# Altium schematic symbol library Microcontrollers.SchLib: 33 symbols (part 2 of 2)
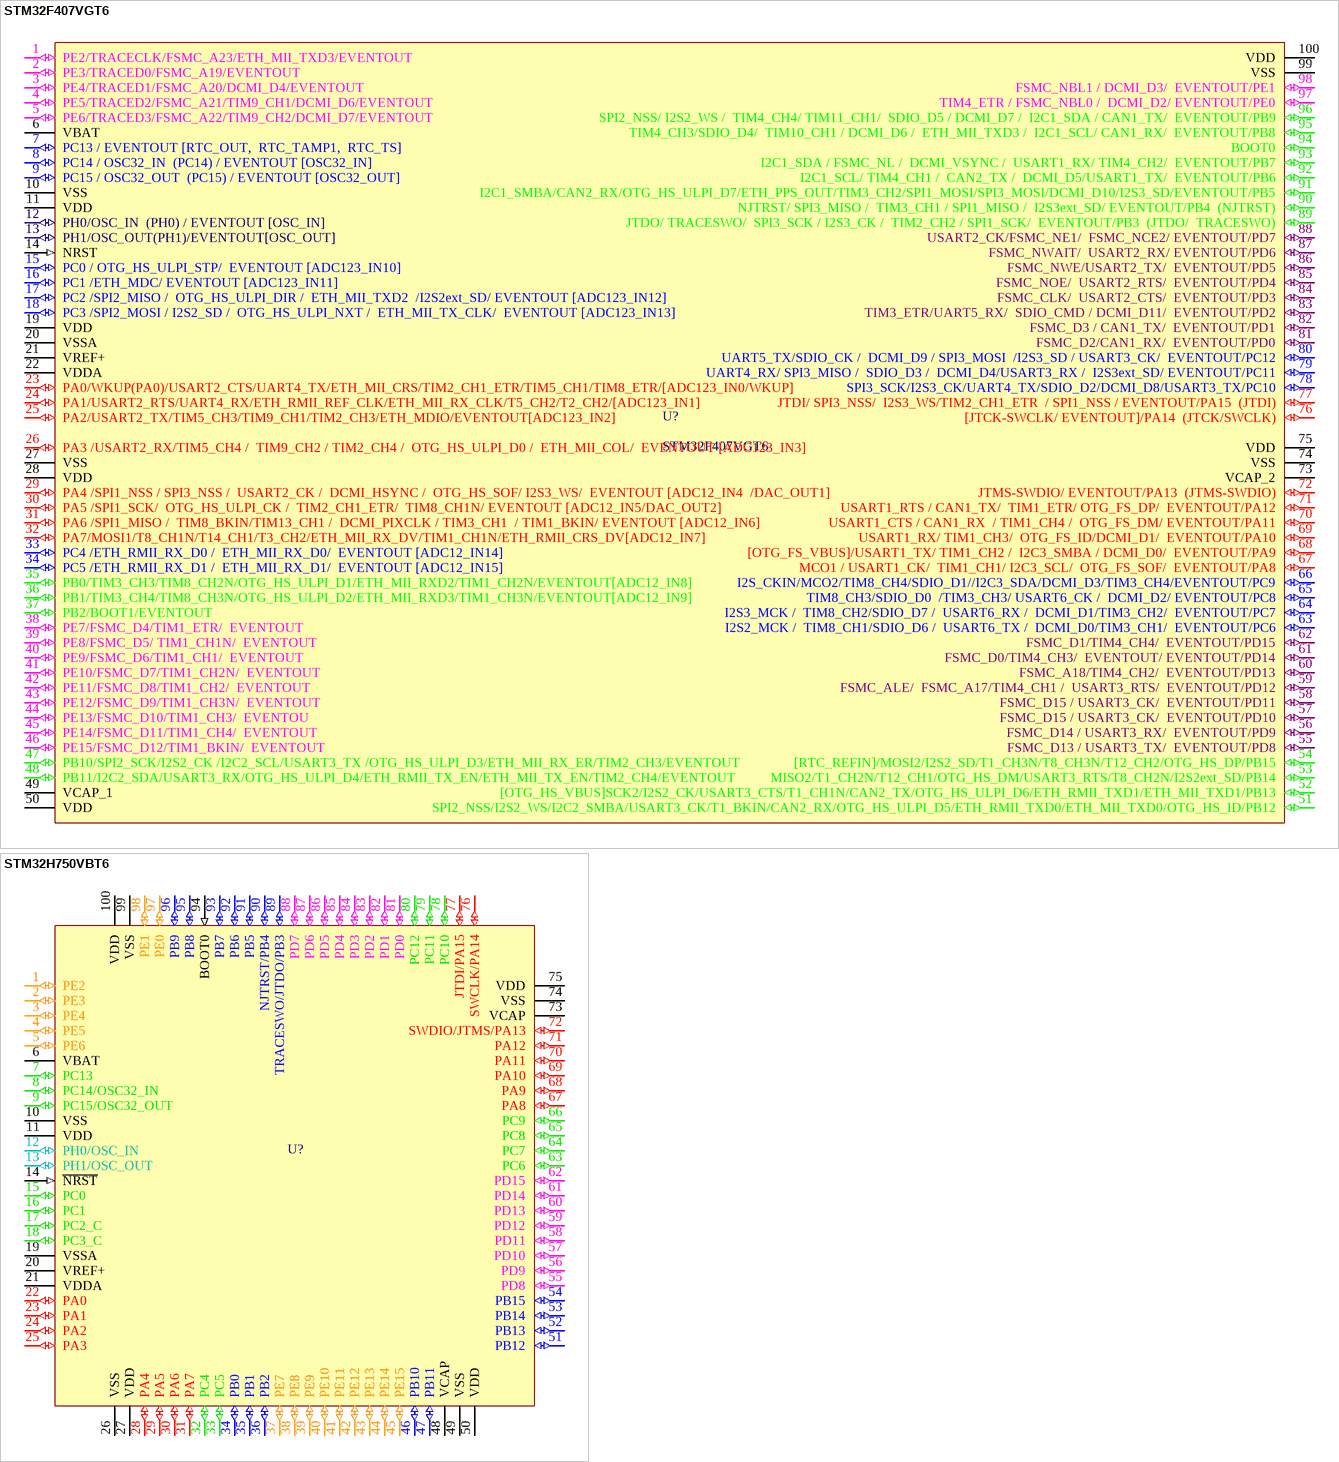
[diagram p7: symbols STM32F407VGT6 to STM32H750VBT6]

## STM32F407VGT6
designator U?
Mounting_Type: Surface_Mount; SAPO_CODE: 530780; SAPO_NAME: STM32F407VGT6 LQFP100; Value: STM32F407VGT6
footprint LQFP-100 (TSQFP, 100-Leads, Body 14.00x14.00mm, Pitch 0.50mm, IPC Medium Density)
pins: 1 PE2/TRACECLK/FSMC_A23/ETH_MII_TXD3/EVENTOUT (io), 2 PE3/TRACED0/FSMC_A19/EVENTOUT (io), 3 PE4/TRACED1/FSMC_A20/DCMI_D4/EVENTOUT (io), 4 PE5/TRACED2/FSMC_A21/TIM9_CH1/DCMI_D6/EVENTOUT (io), 5 PE6/TRACED3/FSMC_A22/TIM9_CH2/DCMI_D7/EVENTOUT (io), 6 VBAT (power), 7 PC13 / EVENTOUT [RTC_OUT,  RTC_TAMP1,  RTC_TS] (io), 8 PC14 / OSC32_IN  (PC14) / EVENTOUT [OSC32_IN] (io), 9 PC15 / OSC32_OUT  (PC15) / EVENTOUT [OSC32_OUT] (io), 10 VSS (power), 11 VDD (power), 12 PH0/OSC_IN  (PH0) / EVENTOUT [OSC_IN] (io), 13 PH1/OSC_OUT(PH1)/EVENTOUT[OSC_OUT] (io), 14 NRST (in), 15 PC0 / OTG_HS_ULPI_STP/  EVENTOUT [ADC123_IN10] (io), 16 PC1 /ETH_MDC/ EVENTOUT [ADC123_IN11]  (io), 17 PC2 /SPI2_MISO /  OTG_HS_ULPI_DIR /  ETH_MII_TXD2  /I2S2ext_SD/ EVENTOUT [ADC123_IN12] (io), 18 PC3 /SPI2_MOSI / I2S2_SD /  OTG_HS_ULPI_NXT /  ETH_MII_TX_CLK/  EVENTOUT [ADC123_IN13] (io), 19 VDD (power), 20 VSSA (power), 21 VREF+, 22 VDDA (power), 23 PA0/WKUP(PA0)/USART2_CTS/UART4_TX/ETH_MII_CRS/TIM2_CH1_ETR/TIM5_CH1/TIM8_ETR/[ADC123_IN0/WKUP] (io), 24 PA1/USART2_RTS/UART4_RX/ETH_RMII_REF_CLK/ETH_MII_RX_CLK/T5_CH2/T2_CH2/[ADC123_IN1] (io), 25 PA2/USART2_TX/TIM5_CH3/TIM9_CH1/TIM2_CH3/ETH_MDIO/EVENTOUT[ADC123_IN2] (io), 26 PA3 /USART2_RX/TIM5_CH4 /  TIM9_CH2 / TIM2_CH4 /  OTG_HS_ULPI_D0 /  ETH_MII_COL/  EVENTOUT [ADC123_IN3] (io), 27 VSS (power), 28 VDD (power), 29 PA4 /SPI1_NSS / SPI3_NSS /  USART2_CK /  DCMI_HSYNC /  OTG_HS_SOF/ I2S3_WS/  EVENTOUT [ADC12_IN4  /DAC_OUT1] (io), 30 PA5 /SPI1_SCK/  OTG_HS_ULPI_CK /  TIM2_CH1_ETR/  TIM8_CH1N/ EVENTOUT [ADC12_IN5/DAC_OUT2] (io), 31 PA6 /SPI1_MISO /  TIM8_BKIN/TIM13_CH1 /  DCMI_PIXCLK / TIM3_CH1  / TIM1_BKIN/ EVENTOUT [ADC12_IN6] (io), 32 PA7/MOSI1/T8_CH1N/T14_CH1/T3_CH2/ETH_MII_RX_DV/TIM1_CH1N/ETH_RMII_CRS_DV[ADC12_IN7] (io), 33 PC4 /ETH_RMII_RX_D0 /  ETH_MII_RX_D0/  EVENTOUT [ADC12_IN14] (io), 34 PC5 /ETH_RMII_RX_D1 /  ETH_MII_RX_D1/  EVENTOUT [ADC12_IN15] (io), 35 PB0/TIM3_CH3/TIM8_CH2N/OTG_HS_ULPI_D1/ETH_MII_RXD2/TIM1_CH2N/EVENTOUT[ADC12_IN8] (io), 36 PB1/TIM3_CH4/TIM8_CH3N/OTG_HS_ULPI_D2/ETH_MII_RXD3/TIM1_CH3N/EVENTOUT[ADC12_IN9] (io), 37 PB2/BOOT1/EVENTOUT (io), 38 PE7/FSMC_D4/TIM1_ETR/  EVENTOUT (io), 39 PE8/FSMC_D5/ TIM1_CH1N/  EVENTOUT (io), 40 PE9/FSMC_D6/TIM1_CH1/  EVENTOUT (io), 41 PE10/FSMC_D7/TIM1_CH2N/  EVENTOUT (io), 42 PE11/FSMC_D8/TIM1_CH2/  EVENTOUT (io), 43 PE12/FSMC_D9/TIM1_CH3N/  EVENTOUT (io), 44 PE13/FSMC_D10/TIM1_CH3/  EVENTOU (io), 45 PE14/FSMC_D11/TIM1_CH4/  EVENTOUT (io), 46 PE15/FSMC_D12/TIM1_BKIN/  EVENTOUT (io), 47 PB10/SPI2_SCK/I2S2_CK /I2C2_SCL/USART3_TX /OTG_HS_ULPI_D3/ETH_MII_RX_ER/TIM2_CH3/EVENTOUT (io), 48 PB11/I2C2_SDA/USART3_RX/OTG_HS_ULPI_D4/ETH_RMII_TX_EN/ETH_MII_TX_EN/TIM2_CH4/EVENTOUT (io), 49 VCAP_1, 50 VDD (power), 51 SPI2_NSS/I2S2_WS/I2C2_SMBA/USART3_CK/T1_BKIN/CAN2_RX/OTG_HS_ULPI_D5/ETH_RMII_TXD0/ETH_MII_TXD0/OTG_HS_ID/PB12 (io), 52 [OTG_HS_VBUS]SCK2/I2S2_CK/USART3_CTS/T1_CH1N/CAN2_TX/OTG_HS_ULPI_D6/ETH_RMII_TXD1/ETH_MII_TXD1/PB13 (io), 53 MISO2/T1_CH2N/T12_CH1/OTG_HS_DM/USART3_RTS/T8_CH2N/I2S2ext_SD/PB14 (io), 54 [RTC_REFIN]/MOSI2/I2S2_SD/T1_CH3N/T8_CH3N/T12_CH2/OTG_HS_DP/PB15 (io), 55 FSMC_D13 / USART3_TX/  EVENTOUT/PD8 (io), 56 FSMC_D14 / USART3_RX/  EVENTOUT/PD9 (io), 57 FSMC_D15 / USART3_CK/  EVENTOUT/PD10 (io), 58 FSMC_D15 / USART3_CK/  EVENTOUT/PD11 (io), 59 FSMC_ALE/  FSMC_A17/TIM4_CH1 /  USART3_RTS/  EVENTOUT/PD12 (io), 60 FSMC_A18/TIM4_CH2/  EVENTOUT/PD13 (io), 61 FSMC_D0/TIM4_CH3/  EVENTOUT/ EVENTOUT/PD14 (io), 62 FSMC_D1/TIM4_CH4/  EVENTOUT/PD15 (io), 63 I2S2_MCK /  TIM8_CH1/SDIO_D6 /  USART6_TX /  DCMI_D0/TIM3_CH1/  EVENTOUT/PC6 (io), 64 I2S3_MCK /  TIM8_CH2/SDIO_D7 /  USART6_RX /  DCMI_D1/TIM3_CH2/  EVENTOUT/PC7 (io), 65 TIM8_CH3/SDIO_D0  /TIM3_CH3/ USART6_CK /  DCMI_D2/ EVENTOUT/PC8 (io), 66 I2S_CKIN/MCO2/TIM8_CH4/SDIO_D1//I2C3_SDA/DCMI_D3/TIM3_CH4/EVENTOUT/PC9 (io), 67 MCO1 / USART1_CK/  TIM1_CH1/ I2C3_SCL/  OTG_FS_SOF/  EVENTOUT/PA8 (io), 68 [OTG_FS_VBUS]/USART1_TX/ TIM1_CH2 /  I2C3_SMBA / DCMI_D0/  EVENTOUT/PA9 (io), 69 USART1_RX/ TIM1_CH3/  OTG_FS_ID/DCMI_D1/  EVENTOUT/PA10 (io), 70 USART1_CTS / CAN1_RX  / TIM1_CH4 /  OTG_FS_DM/ EVENTOUT/PA11 (io), 71 USART1_RTS / CAN1_TX/  TIM1_ETR/ OTG_FS_DP/  EVENTOUT/PA12 (io), 72 JTMS-SWDIO/ EVENTOUT/PA13  (JTMS-SWDIO) (io), 73 VCAP_2, 74 VSS (power), 75 VDD (power), 76 [JTCK-SWCLK/ EVENTOUT]/PA14  (JTCK/SWCLK) (io), 77 JTDI/ SPI3_NSS/  I2S3_WS/TIM2_CH1_ETR  / SPI1_NSS / EVENTOUT/PA15  (JTDI) (io), 78 SPI3_SCK/I2S3_CK/UART4_TX/SDIO_D2/DCMI_D8/USART3_TX/PC10 (io), 79 UART4_RX/ SPI3_MISO /  SDIO_D3 /  DCMI_D4/USART3_RX /  I2S3ext_SD/ EVENTOUT/PC11 (io), 80 UART5_TX/SDIO_CK /  DCMI_D9 / SPI3_MOSI  /I2S3_SD / USART3_CK/  EVENTOUT/PC12 (io), 81 FSMC_D2/CAN1_RX/  EVENTOUT/PD0 (io), 82 FSMC_D3 / CAN1_TX/  EVENTOUT/PD1 (io), 83 TIM3_ETR/UART5_RX/  SDIO_CMD / DCMI_D11/  EVENTOUT/PD2 (io), 84 FSMC_CLK/  USART2_CTS/  EVENTOUT/PD3 (io), 85 FSMC_NOE/  USART2_RTS/  EVENTOUT/PD4 (io), 86 FSMC_NWE/USART2_TX/  EVENTOUT/PD5 (io), 87 FSMC_NWAIT/  USART2_RX/ EVENTOUT/PD6 (io), 88 USART2_CK/FSMC_NE1/  FSMC_NCE2/ EVENTOUT/PD7 (io), 89 JTDO/ TRACESWO/  SPI3_SCK / I2S3_CK /  TIM2_CH2 / SPI1_SCK/  EVENTOUT/PB3  (JTDO/  TRACESWO) (io), 90 NJTRST/ SPI3_MISO /  TIM3_CH1 / SPI1_MISO /  I2S3ext_SD/ EVENTOUT/PB4  (NJTRST) (io), 91 I2C1_SMBA/CAN2_RX/OTG_HS_ULPI_D7/ETH_PPS_OUT/TIM3_CH2/SPI1_MOSI/SPI3_MOSI/DCMI_D10/I2S3_SD/EVENTOUT/PB5 (io), 92 I2C1_SCL/ TIM4_CH1 /  CAN2_TX /  DCMI_D5/USART1_TX/  EVENTOUT/PB6 (io), 93 I2C1_SDA / FSMC_NL /  DCMI_VSYNC /  USART1_RX/ TIM4_CH2/  EVENTOUT/PB7 (io), 94 BOOT0 (io), 95 TIM4_CH3/SDIO_D4/  TIM10_CH1 / DCMI_D6 /  ETH_MII_TXD3 /  I2C1_SCL/ CAN1_RX/  EVENTOUT/PB8 (io), 96 SPI2_NSS/ I2S2_WS /  TIM4_CH4/ TIM11_CH1/  SDIO_D5 / DCMI_D7 /  I2C1_SDA / CAN1_TX/  EVENTOUT/PB9 (io), 97 TIM4_ETR / FSMC_NBL0 /  DCMI_D2/ EVENTOUT/PE0 (io), 98 FSMC_NBL1 / DCMI_D3/  EVENTOUT/PE1 (io), 99 VSS (power), 100 VDD (power)

## STM32H750VBT6
designator U?  (value not drawn)
footprint LQFP-100
pins: 1 PE2 (io), 2 PE3 (io), 3 PE4 (io), 4 PE5 (io), 5 PE6 (io), 6 VBAT (power), 7 PC13 (io), 8 PC14/OSC32_IN (io), 9 PC15/OSC32_OUT (io), 10 VSS (power), 11 VDD (power), 12 PH0/OSC_IN (io), 13 PH1/OSC_OUT (io), 14 ~{NRST} (in), 15 PC0 (io), 16 PC1 (io), 17 PC2_C (io), 18 PC3_C (io), 19 VSSA (power), 20 VREF+, 21 VDDA (power), 22 PA0 (io), 23 PA1 (io), 24 PA2 (io), 25 PA3 (io), 26 VSS (power), 27 VDD (power), 28 PA4 (io), 29 PA5 (io), 30 PA6 (io), 31 PA7 (io), 32 PC4 (io), 33 PC5 (io), 34 PB0 (io), 35 PB1 (io), 36 PB2 (io), 37 PE7 (io), 38 PE8 (io), 39 PE9 (io), 40 PE10 (io), 41 PE11 (io), 42 PE12 (io), 43 PE13 (io), 44 PE14 (io), 45 PE15 (io), 46 PB10 (io), 47 PB11 (io), 48 VCAP, 49 VSS (power), 50 VDD (power), 51 PB12 (io), 52 PB13 (io), 53 PB14 (io), 54 PB15 (io), 55 PD8 (io), 56 PD9 (io), 57 PD10 (io), 58 PD11 (io), 59 PD12 (io), 60 PD13 (io), 61 PD14 (io), 62 PD15 (io), 63 PC6 (io), 64 PC7 (io), 65 PC8 (io), 66 PC9 (io), 67 PA8 (io), 68 PA9 (io), 69 PA10 (io), 70 PA11 (io), 71 PA12 (io), 72 SWDIO/JTMS/PA13 (io), 73 VCAP, 74 VSS (power), 75 VDD (power), 76 SWCLK/PA14 (io), 77 JTDI/PA15 (io), 78 PC10 (io), 79 PC11 (io), 80 PC12 (io), 81 PD0 (io), 82 PD1 (io), 83 PD2 (io), 84 PD3 (io), 85 PD4 (io), 86 PD5 (io), 87 PD6 (io), 88 PD7 (io), 89 TRACESWO/JTDO/PB3 (io), 90 NJTRST/PB4 (io), 91 PB5 (io), 92 PB6 (io), 93 PB7 (io), 94 BOOT0 (in), 95 PB8 (io), 96 PB9 (io), 97 PE0 (io), 98 PE1 (io), 99 VSS (power), 100 VDD (power)